# Altium footprint library AMPHENOL_10129380-905001BLF.PcbLib: 1 footprints
Each footprint in its own frame and in the unit in brackets; x right, y up, seen from the top. Pads: shape width x height; smd on the part's side, far side on the other; paste and mask are expansions set on the pad; w line width, h text height; cw(c..) or ccw(c..) is an arc to the next point about the centre after c.
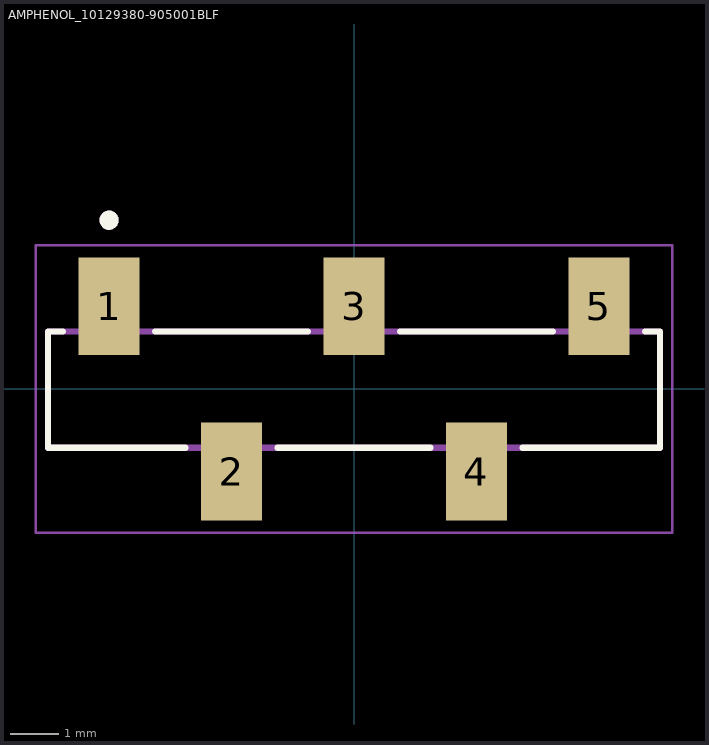
[diagram p0: the footprint, top view; thin cyan lines are the x and y axes]

## AMPHENOL_10129380-905001BLF [mm]
pads (5):
  rect 1.27x2.03 smd: 1(-5.08,1.715) 2(-2.54,-1.715) 3(0,1.715) 4(2.54,-1.715) 5(5.08,1.715)
Top Overlay:
  circle w0.2: c-5.08,3.5 r0.1
  lines w0.127: -6.035,1.19 -6.35,1.19 -6.35,-1.22 -3.495,-1.22 ; -4.125,1.19 -0.955,1.19 ; -1.585,-1.22 1.585,-1.22 ; 0.955,1.19 4.125,1.19 ; 3.495,-1.22 6.35,-1.22 6.35,1.19 6.035,1.19
Mechanical 13:
  circle w0.2: c-5.08,3.5 r0.1
  lines w0.127: -6.35,-1.22 -6.35,1.19 6.35,1.19 6.35,-1.22 -6.35,-1.22
Mechanical 15:
  lines w0.05: -6.6,-2.98 -6.6,2.98 6.6,2.98 6.6,-2.98 -6.6,-2.98
3D body "step_temp.STEP": height 9.85, standoff 0, extent -6.35,-2.415 6.35,2.415